# EAGLE library part Y14H-1C-3DS (library mille-feuille)
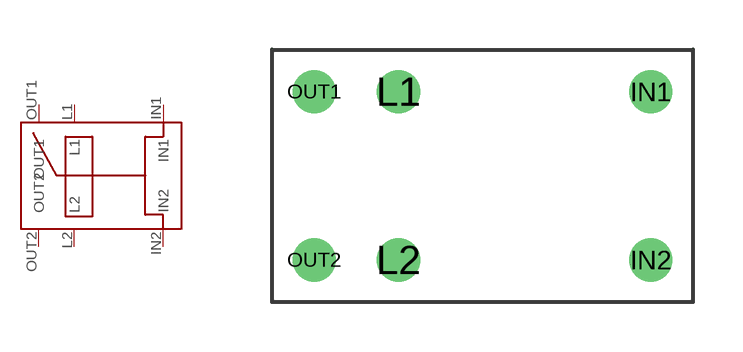
[diagram p15: symbol with the pads of Y14H-1C-3DS; footprint Y14H-1C-3DS]

Designator prefix S

## Y14H-1C-3DS  [Y14H-1C-3DS]
IN1  IN1
IN2  IN2
L1  L1
L2  L2
OUT1  OUT1
OUT2  OUT2

## Footprint Y14H-1C-3DS (pad centres in mm)
drill 0.8: IN1 5.08,2.54; IN2 5.08,-2.54; L1 -2.54,2.54; L2 -2.54,-2.54; OUT1 -5.08,2.54; OUT2 -5.08,-2.54